# EAGLE library part MICROBUILDER_VSOP383 (library Adafruit Circuit Playground Express)
VSOP383 - Preamplifier Circuit for IR Remote Control
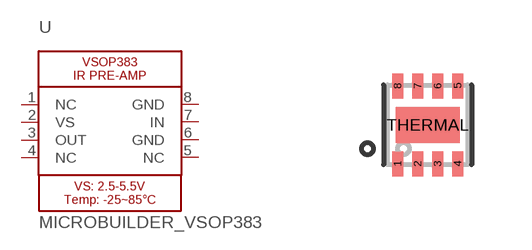
[diagram p4: symbol with the pads of MICROBUILDER_VSOP383; footprint MICROBUILDER_VSOP383]

Designator prefix U

## MICROBUILDER_VSOP383  [MICROBUILDER_VSOP383]
1  NC  nc
2  VS  pwr
3  OUT  out
4  NC  nc
5  NC  nc
6  GND  pwr
7  IN  in
8  GND  pwr

## Footprint MICROBUILDER_VSOP383 (pad centres in mm)
smd 0.275 x 0.625: 1 -0.75,-0.975; 2 -0.25,-0.975; 3 0.25,-0.975; 4 0.75,-0.975; 5 0.75,0.975; 6 0.25,0.975; 7 -0.25,0.975; 8 -0.75,0.975
smd 1.6 x 0.9: THERMAL 0,0